# EAGLE library part PIC16F18855-SOIC28 (library AllAboutEE)
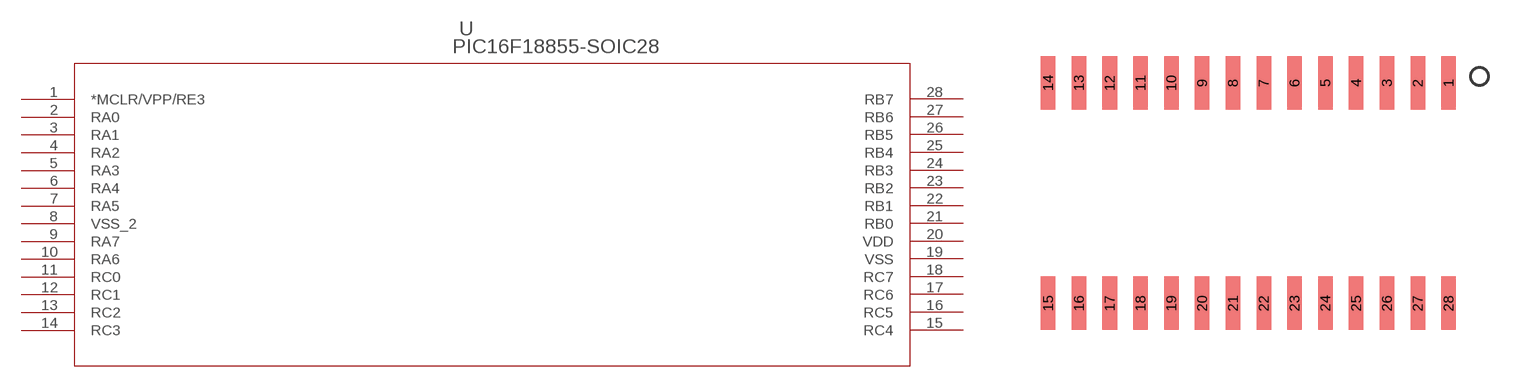
[diagram p12: symbol with the pads of SOIC-28; footprint SOIC-28]

Designator prefix -

## PIC16F18855-SOIC28  [SOIC-28]
1  *MCLR/VPP/RE3  pas
2  RA0  pas
3  RA1  pas
4  RA2  pas
5  RA3  pas
6  RA4  pas
7  RA5  pas
8  VSS_2  pas
9  RA7  pas
10  RA6  pas
11  RC0  pas
12  RC1  pas
13  RC2  pas
14  RC3  pas
15  RC4  pas
16  RC5  pas
17  RC6  pas
18  RC7  pas
19  VSS  pas
20  VDD  pas
21  RB0  pas
22  RB1  pas
23  RB2  pas
24  RB3  pas
25  RB4  pas
26  RB5  pas
27  RB6  pas
28  RB7  pas

## Footprint SOIC-28 (pad centres in mm)
smd 0.6 x 2.2: 1 8.89,4.548; 2 7.62,4.548; 3 6.35,4.548; 4 5.08,4.548; 5 3.81,4.548; 6 2.54,4.548; 7 1.27,4.548; 8 0,4.548; 9 -1.27,4.548; 10 -2.54,4.548; 11 -3.81,4.548; 12 -5.08,4.548; 13 -6.35,4.548; 14 -7.62,4.548; 15 -7.62,-4.548; 16 -6.35,-4.548; 17 -5.08,-4.548; 18 -3.81,-4.548; 19 -2.54,-4.548; 20 -1.27,-4.548; 21 0,-4.548; 22 1.27,-4.548; 23 2.54,-4.548; 24 3.81,-4.548; 25 5.08,-4.548; 26 6.35,-4.548; 27 7.62,-4.548; 28 8.89,-4.548